# EAGLE library part PINS_FTDI (library arduino)
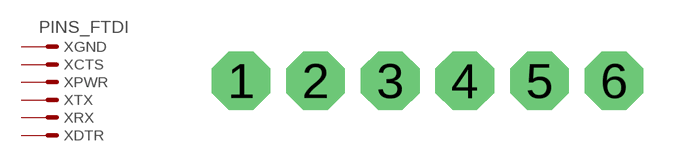
[diagram p2: symbol with the pads of 6PIN; footprint 6PIN]

Designator prefix X; gates GND=MV CTS=M PWR=M TX=M RX=M DTR=M

## PINS_FTDI1  [6PIN]
1  GND:S  pas
2  CTS:S  pas
3  PWR:S  pas
4  TX:S  pas
5  RX:S  pas
6  DTR:S  pas

## Footprint 6PIN (pad centres in mm)
CONNECTOR series 057 contact pc board low profile headers straight
drill 1 pad 2 octagon: 1 -6.35,-1.27; 2 -3.81,-1.27; 3 -1.27,-1.27; 4 1.27,-1.27; 5 3.81,-1.27; 6 6.35,-1.27